# Altium integrated library Test_Points.IntLib: 4 symbols
Pins are listed as number, name and electrical type; pins without a type are passive.

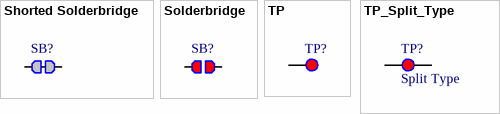
[diagram p0: symbols Shorted Solderbridge to TP_Split_Type]

## Shorted Solderbridge
designator SB?, comment Solderbridge  (value not drawn)  (no BOM)
Shorted Solderbridge; Value: Solderbridge
footprint Solderbridge_Shorted
pins: 1, 2

## Solderbridge
designator SB?  (value not drawn)  (no BOM)
Value: Solderbridge
footprint SB
pins: 1, 2

## TP
designator TP?, comment Test Point  (value not drawn)
footprint TP_1mm
pins: 1

## TP_Split_Type
designator TP?, comment Split Type
Author: Shahrear Mahmud
footprint Split_Type
footprint Split_Type_1mm
pins: 1, 2